# Altium integrated library Capacitors.IntLib: 3 symbols
Pins are listed as number, name and electrical type; pins without a type are passive.

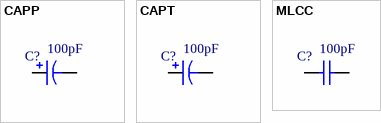
[diagram p0: symbols CAPP to MLCC]

## CAPP
designator C?  value 100pF
Polymer Capacitors; VoltageRatingDC: 5V; Tolerance: 10%
footprint PCAP_SVP_B4
footprint PCAP_SVP_B4-L
footprint PCAP_SVP_B4-M
footprint PCAP_SVP_C5
footprint PCAP_SVP_C5-L
footprint PCAP_SVP_C5-M
footprint PCAP_SVP_D6
footprint PCAP_SVP_D6-L
footprint PCAP_SVP_D6-M
pins: 1, 2

## CAPT
designator C?  value 100pF
Tantalum Capacitors; VoltageRatingDC: 5V; Tolerance: 10%
footprint TCAP_3216
footprint TCAP_3216-L
footprint TCAP_3216-M
footprint TCAP_3528-21
footprint TCAP_3528-21-L
footprint TCAP_3528-21-M
footprint TCAP_7343-43
footprint TCAP_7343-43_L
footprint TCAP_7343-43_M
pins: 1, 2

## MLCC
designator C?  value 100pF
Multilayer Ceramic Capacitors; VoltageRatingDC: 5V; Tolerance: 10%
footprint CAP_0402
footprint CAP_0402-L
footprint CAP_0402-M
footprint CAP_0603
footprint CAP_0603-L
footprint CAP_0603-M
footprint CAP_0805
footprint CAP_0805-L
footprint CAP_0805-M
footprint CAP_1206
footprint CAP_1206-L
footprint CAP_1206-M
footprint CAP_1210
footprint CAP_1210-L
footprint CAP_1210-M
footprint CAP_0201
footprint CAP_0201-L
footprint CAP_0201-M
pins: 1, 2